# Altium schematic symbol library LD_SchLib.SchLib: 1 symbol
Pins are listed as number, name and electrical type; pins without a type are passive.

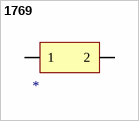
[diagram p0: symbol 1769]

## 1769
designator J*
Adafruit Accessories JST-PH 2-pin SMT Right Angle Connect
footprint 1769 (Adafruit Accessories JST-PH 2-pin SMT Right Angle Connect)
pins: 1, 2